# EAGLE library part MAX5322EAI+ (library MAX5322EAI+)
Maxim MAX5322EAI+, 2-channel 12 bit Serial DAC, 28-Pin SSOP Source: Datasheet <https://componentsearchengine.com/Datasheets/2/MAX5322EAI .pdf>
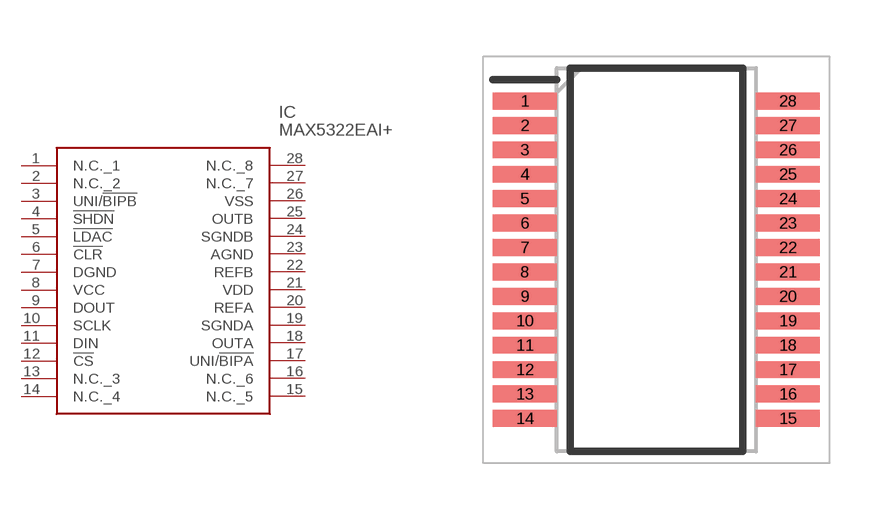
[diagram p0: symbol with the pads of SOP65P778X199-28N; footprint SOP65P778X199-28N]

Designator prefix IC

## MAX5322EAI+ (Description: Maxim MAX5322EAI+, 2-channel 12 bit Serial DAC, 28-Pin SSOP; Height: 1.99mm; Manufacturer_Name: Maxim Integrated; Manufacturer_Part_Number: MAX5322EAI+; Mouser_Part_Number: 700-MAX5322EAI; Mouser_Price-Stock: https://www.mouser.com/Search/Refine.aspx?Keyword=700-MAX5322EAI; RS_Part_Number: 7997645P; RS_Price-Stock: http://uk.rs-online.com/web/p/products/7997645P)  [SOP65P778X199-28N]
1  N.C._1
2  N.C._2
3  UNI/!BIPB
4  !SHDN
5  !LDAC
6  !CLR
7  DGND
8  VCC
9  DOUT
10  SCLK
11  DIN
12  !CS
13  N.C._3
14  N.C._4
15  N.C._5
16  N.C._6
17  UNI/!BIPA
18  OUTA
19  SGNDA
20  REFA
21  VDD
22  REFB
23  AGND
24  SGNDB
25  OUTB
26  VSS
27  N.C._7
28  N.C._8

## Footprint SOP65P778X199-28N (pad centres in mm)
MAX 28 SSOP
smd 1.705 x 0.45: 1 -3.498,4.225; 2 -3.498,3.575; 3 -3.498,2.925; 4 -3.498,2.275; 5 -3.498,1.625; 6 -3.498,0.975; 7 -3.498,0.325; 8 -3.498,-0.325; 9 -3.498,-0.975; 10 -3.498,-1.625; 11 -3.498,-2.275; 12 -3.498,-2.925; 13 -3.498,-3.575; 14 -3.498,-4.225; 15 3.498,-4.225; 16 3.498,-3.575; 17 3.498,-2.925; 18 3.498,-2.275; 19 3.498,-1.625; 20 3.498,-0.975; 21 3.498,-0.325; 22 3.498,0.325; 23 3.498,0.975; 24 3.498,1.625; 25 3.498,2.275; 26 3.498,2.925; 27 3.498,3.575; 28 3.498,4.225